# EAGLE library part LM2700 (library PP_PowerIC)
Manufacturer Part #: LM2700 Manufacturer: Texas Instruments Description: Voltage Regulators - Switching Regulators STEP-UP PWM DC/DC CONVERTER
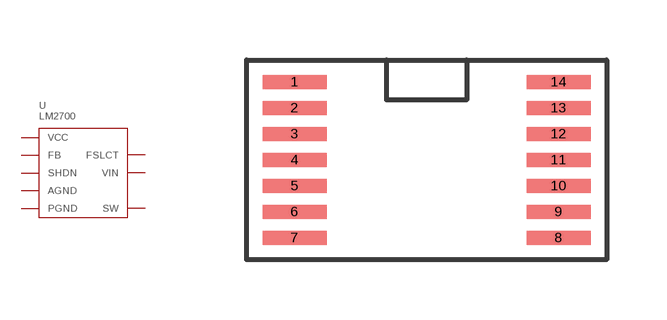
[diagram p5: symbol with the pads of LM2700_TSSOP-14; footprint LM2700_TSSOP-14]

Designator prefix U

## LM2700  [LM2700_TSSOP-14]
1  VCC
2  FB
3  SHDN
4  AGND
5  PGND
6  PGND
7  PGND
8  SW
9  SW
10  SW
12  VIN
13  FSLCT

## Footprint LM2700_TSSOP-14 (pad centres in mm)
smd 1.6 x 0.35: 1 -3.3,1.95; 2 -3.3,1.3; 3 -3.3,0.65; 4 -3.3,0; 5 -3.3,-0.65; 6 -3.3,-1.3; 7 -3.3,-1.95; 8 3.3,-1.95; 9 3.3,-1.3; 10 3.3,-0.65; 11 3.3,0; 12 3.3,0.65; 13 3.3,1.3; 14 3.3,1.95